# EAGLE library part LCD8X2 (library domonetic)
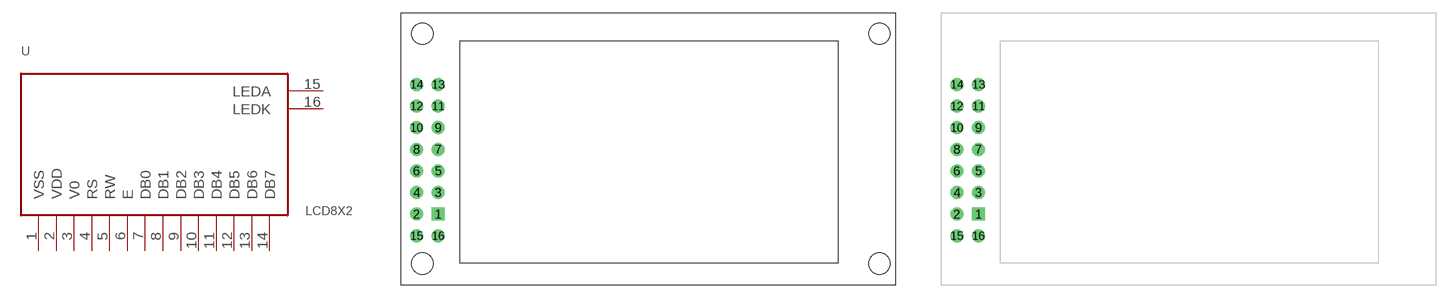
[diagram p4: symbol with the pads of LEFT-SPLC780D; footprints LEFT-SPLC780D, LEFT-SPLC780D-ND]

Designator prefix -

## LCD8X2LEFTANDDRILL  [LEFT-SPLC780D]
1  VSS
2  VDD
3  V0
4  RS
5  RW
6  E
7  DB0
8  DB1
9  DB2
10  DB3
11  DB4
12  DB5
13  DB6
14  DB7
15  LEDA
16  LEDK

## LCD8X2LEFTNODRILL  [LEFT-SPLC780D-ND]
Pads as for LEFT-SPLC780D

## Footprint LEFT-SPLC780D (pad centres in mm)
drill 0.9 pad 1.524 square: 1 0,0
drill 0.9 pad 1.524: 2 -2.54,0; 3 0,2.54; 4 -2.54,2.54; 5 0,5.08; 6 -2.54,5.08; 7 0,7.62; 8 -2.54,7.62; 9 0,10.16; 10 -2.54,10.16; 11 0,12.7; 12 -2.54,12.7; 13 0,15.24; 14 -2.54,15.24; 15 -2.54,-2.54; 16 0,-2.54
hole 2.5 at -1.84,21.2
hole 2.5 at -1.84,-5.8
hole 2.5 at 51.78,-5.8
hole 2.5 at 51.78,21.2

## Footprint LEFT-SPLC780D-ND (pad centres in mm)
drill 0.9 pad 1.524 square: 1 0,0
drill 0.9 pad 1.524: 2 -2.54,0; 3 0,2.54; 4 -2.54,2.54; 5 0,5.08; 6 -2.54,5.08; 7 0,7.62; 8 -2.54,7.62; 9 0,10.16; 10 -2.54,10.16; 11 0,12.7; 12 -2.54,12.7; 13 0,15.24; 14 -2.54,15.24; 15 -2.54,-2.54; 16 0,-2.54